# EAGLE library part B39431B3730H110 (library B39871B3725U410)
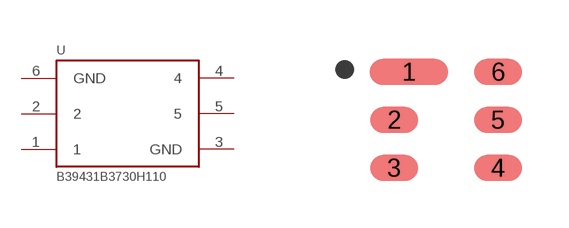
[diagram p1: symbol with the pads of SON120P300X300X110-6N; footprint SON120P300X300X110-6N]

Designator prefix -

## B39431B3730H110  [SON120P300X300X110-6N]
1  1  in
2  2  pwr
3  GND  pwr
4  4  out
5  5  pwr
6  GND  pwr

## Footprint SON120P300X300X110-6N (pad centres in mm)
smd 1.96 x 0.65: 1 -0.93,1.2
smd 1.2 x 0.65: 2 -1.3,0; 3 -1.3,-1.2; 4 1.3,-1.2; 5 1.3,0; 6 1.3,1.2